# Altium schematic symbol library AS_Node_SchLib.SchLib: 1 symbol
Pins are listed as number, name and electrical type; pins without a type are passive.

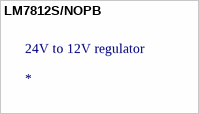
[diagram p0: symbol LM7812S/NOPB]

## LM7812S/NOPB
designator 24V to 12V regulator